# Altium footprint library 165mm-v1.PcbLib: 63 footprints (part 1 of 4)
Each footprint in its own frame and in the unit in brackets; x right, y up, seen from the top. Pads: shape width x height; smd on the part's side, far side on the other; paste and mask are expansions set on the pad; w line width, h text height; cw(c..) or ccw(c..) is an arc to the next point about the centre after c.
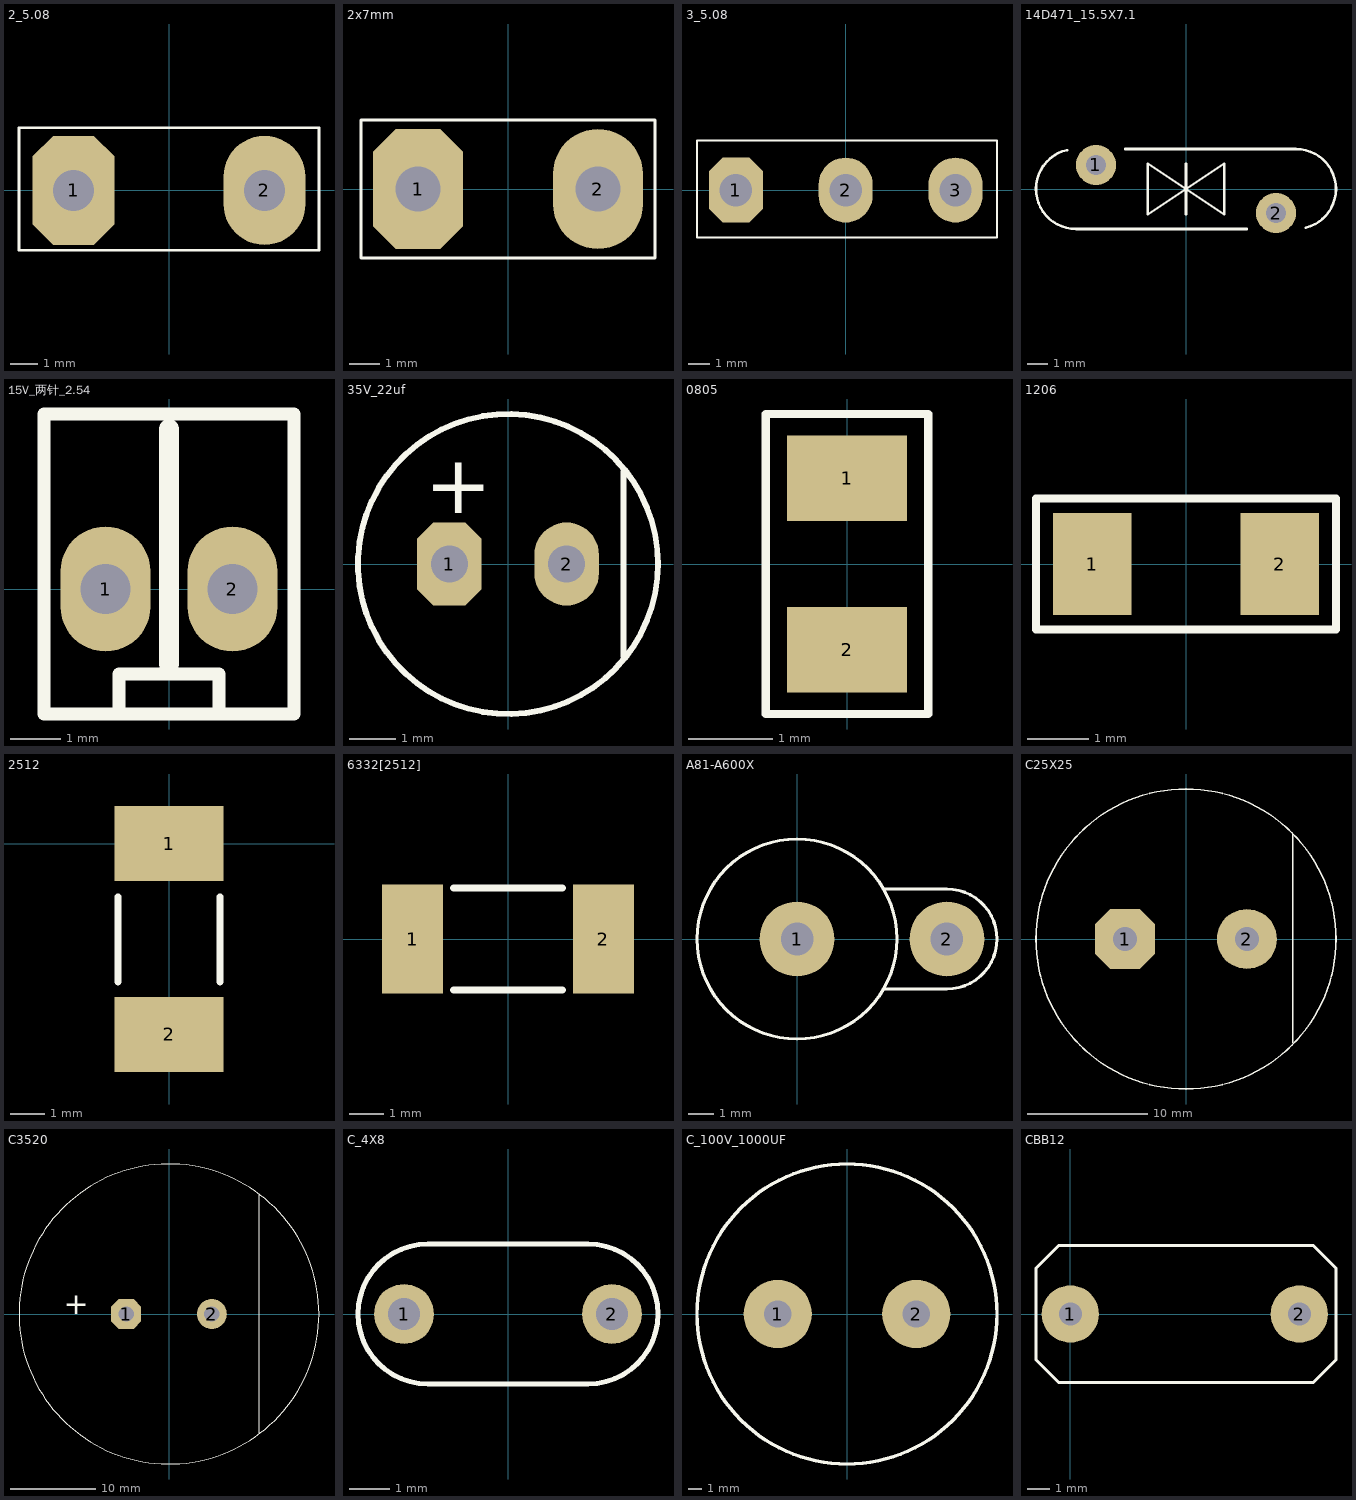
[diagram p0: the footprints below, top view; thin cyan lines are the x and y axes]

## 2_5.08 [mm]
height 9.6
pads (2):
  oct 3x4 hole 1.5: 1(-3.5,0)
  oval 3x4 hole 1.5: 2(3.5,0)
Top Overlay:
  lines w0.1: -5.5,-2.2 -5.5,2.3 5.5,2.3 5.5,-2.2 -5.5,-2.2

## 2x7mm [mm]
pads (2):
  oct 3x4 hole 1.5: 1(-3,0)
  oval 3x4 hole 1.5: 2(3,0)
Top Overlay:
  lines w0.1: -4.9,-2.3 -4.9,2.3 4.9,2.3 4.9,-2.3 -4.9,-2.3

## 3_5.08 [mm]
height 25
pads (3):
  oct 2.5x3 hole 1.5: 1(-5.08,0)
  oval 2.5x3 hole 1.5: 2(0,0) 3(5.08,0)
Top Overlay:
  lines w0.1: -6.88,-2.2 7,-2.2 7,2.3 -6.88,2.3 -6.88,-2.2

## 14D471_15.5X7.1 [mm]
height 25
pads (2):
  round 2 hole 1: 1(-4.5,1.2) 2(4.5,-1.2)
Top Overlay:
  lines w0.127: -5.95,1.949 ccw(c-5.5,0) -5.5,-2 3.048,-2 ; -3.048,2 5.5,2 cw(c5.5,0) 5.978,-1.942 ; 0,-1.27 0,1.27 ; -1.905,-1.27 -1.905,1.27 1.905,-1.27 1.905,1.27 -1.905,-1.27

## 15V_两针_2.54 [mm]
height 9.6
pads (2):
  oval 1.8x2.5 hole 1: 1(-1.27,0) 2(1.27,0)
Top Overlay:
  lines w0.254: -1,-2.5 -1,-1.7 1,-1.7 1,-2.5 ; -2.5,-2.5 2.5,-2.5 2.5,3.5 -2.5,3.5 -2.5,-2.5
  lines w0.4: 0,-1.5 0,3.2
Bottom Overlay:
  lines w0.4: 0,-1.5 0,1.5

## 35V_22uf [mm]
height 9.6
pads (2):
  oct 1.4x1.8 hole 0.8: 1(-1.27,0)
  oval 1.4x1.8 hole 0.8: 2(1.27,0)
Top Overlay:
  circle w0.127: c0,0 r3.25
  lines w0.127: 2.5,-2 2.5,2
  text "+" at -1.8,1.1 h1.27

## 0805 [mil]
height 377.95
pads (2):
  rect 56x40 smd: 1(0,40) 2(0,-40)
Top Overlay:
  lines w3.94: -38,-70 38,-70 38,70 -38,70 -38,-70

## 1206 [mil]
height 377.95
pads (2):
  rect 50x65 smd: 1(-60,0) 2(60,0)
Top Overlay:
  lines w5: -96,-42 96,-42 96,42 -96,42 -96,-42

## 2512 [mm]
height 9.6
pads (2):
  rect 3.2x2.2 smd: 1(0,0) 2(0,-5.6)
Top Overlay:
  lines w0.2: -1.5,-4.06 -1.5,-1.56 ; 1.5,-4.06 1.5,-1.56

## 6332[2512] [mm] "Chip Resistor; Body 6.3 x 3.2 mm (LxW typ)"
height 0.6
pads (2):
  rect 1.8x3.2 smd: 1(-2.8,0) 2(2.8,0)
Top Overlay:
  lines w0.2: -1.6,-1.5 1.6,-1.5 ; -1.6,1.5 1.6,1.5

## A81-A600X [mm]
height 25
pads (2):
  round 3 hole 1.3: 1(0,0) 2(6,0)
Top Overlay:
  circle w0.127: c0,0 r4
  lines w0.127: 3.461,-2 6,-2 ccw(c6,0) 6,2 3.461,2

## C25X25 [mm]
pads (2):
  oct 5x5 hole 2: 1(-5.08,0)
  round 5 hole 2: 2(5.08,0)
Top Overlay:
  circle w0.127: c0,0 r12.5
  lines w0.127: 8.89,-8.636 8.89,8.763

## C3520 [mm]
height 9.6
pads (2):
  oct 3.5x3.5 hole 1.8: 1(-5,0)
  round 3.5 hole 1.8: 2(5,0)
Top Overlay:
  circle w0.127: c0,0 r17.5
  lines w0.127: 10.5,-13.9 10.5,14
  text "+" at -12.25,0 h2.54

## C_4X8 [mm]
height 25
pads (2):
  round 1.5 hole 0.8: 1(-2.6,0) 2(2.6,0)
Top Overlay:
  lines w0.127: -2,-1.75 cw(c-2,0) -2,1.75 2,1.75 cw(c2,0) 2,-1.75 -2,-1.75

## C_100V_1000UF [mm]
pads (2):
  round 5 hole 2: 1(-5.08,0) 2(5.08,0)
Top Overlay:
  circle w0.254: c0,0 r11

## CBB12 [mm]
height 9.6
pads (2):
  round 2.5 hole 1: 1(0,0) 2(10,0)
Top Overlay:
  lines w0.127: -1.5,-2 -1.5,2 -0.5,3 10.6,3 11.6,2 11.6,-2 10.6,-3 -0.5,-3 -1.5,-2